# Altium integrated library Analog Devices Data Converters Analog-to-Digital Converters.IntLib: 2400 symbols (part 203 of 338)
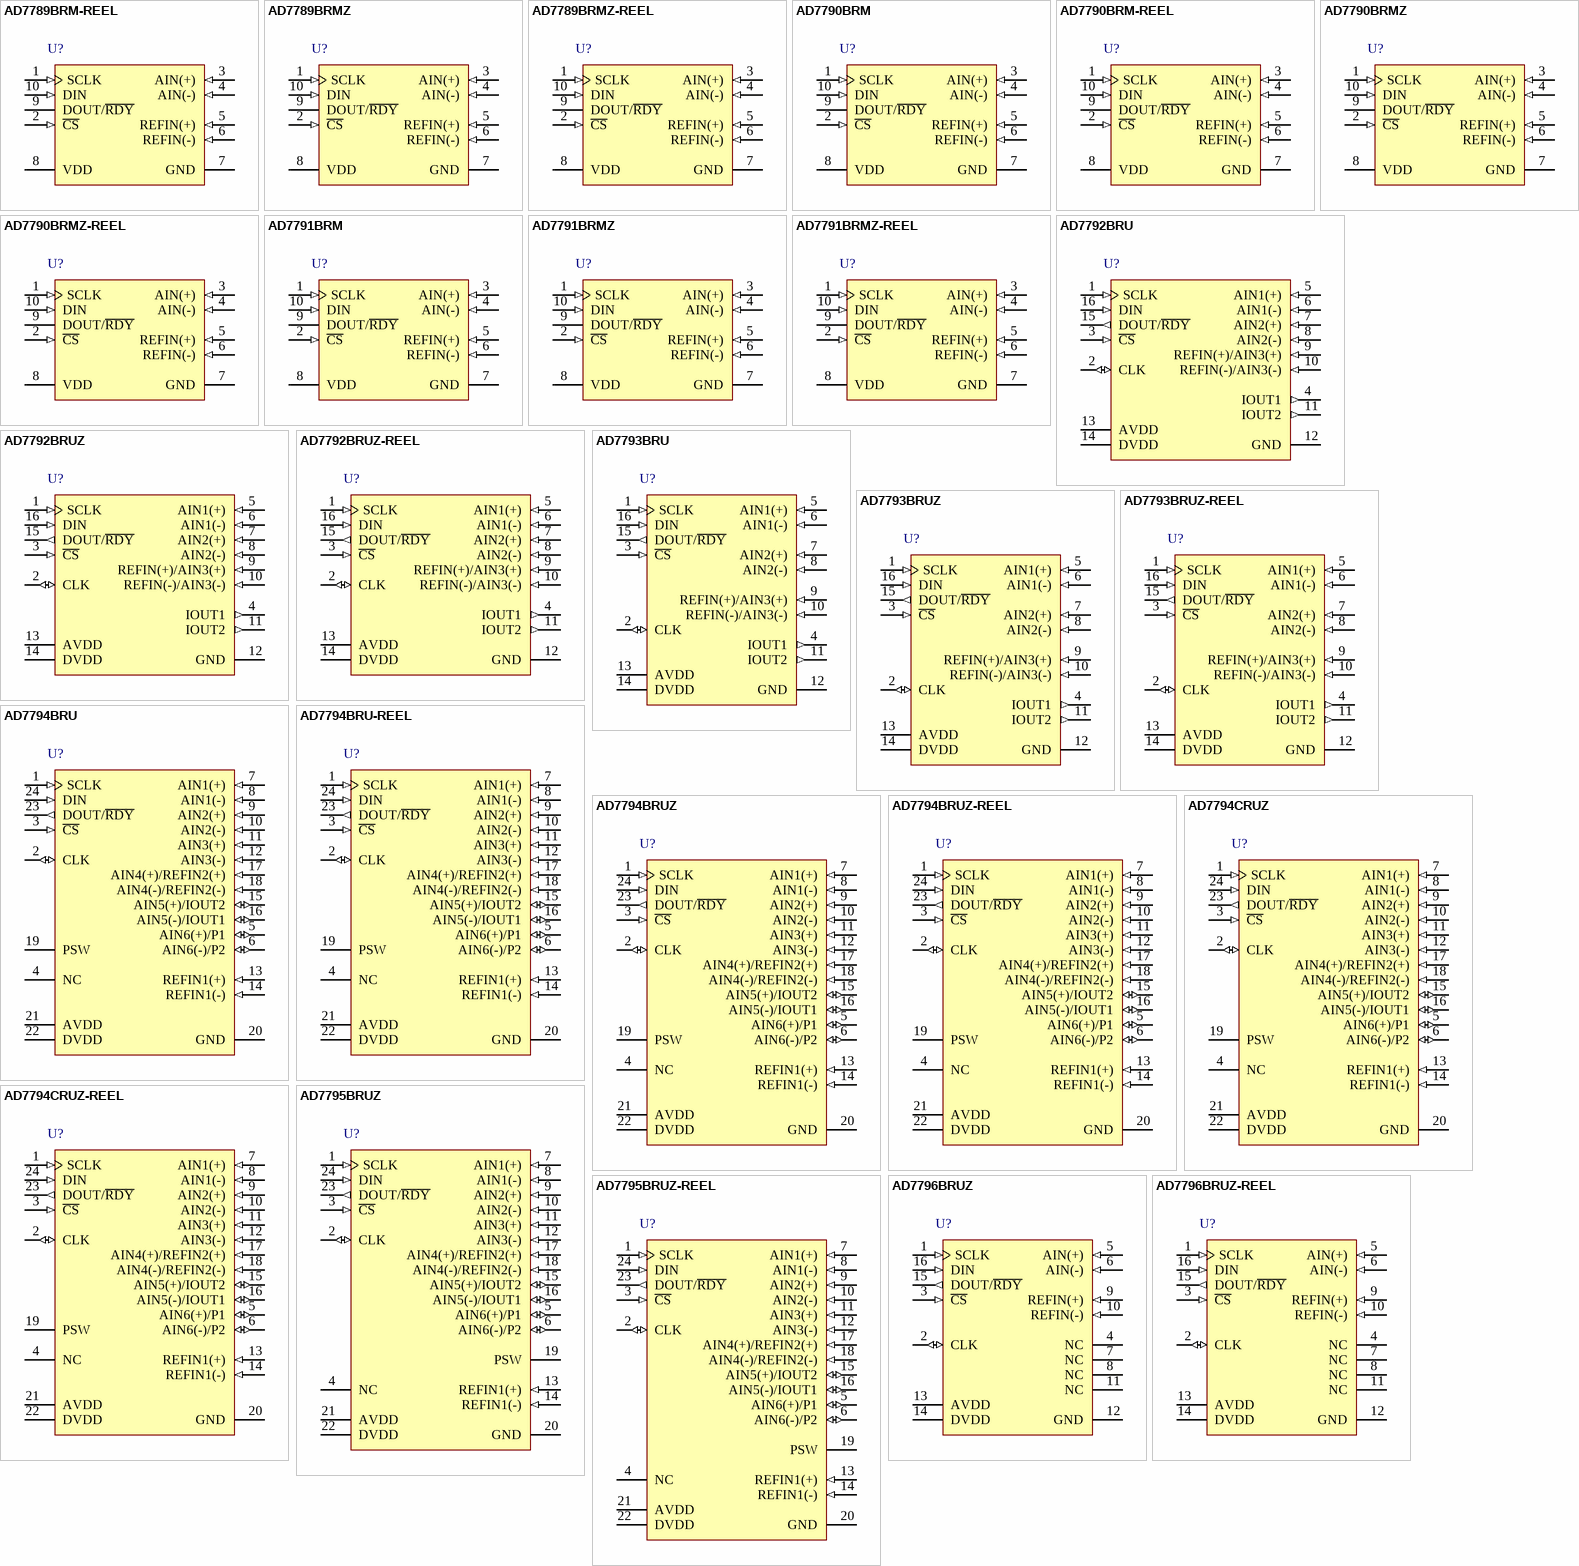
[diagram p267: symbols AD7789BRM-REEL to AD7796BRUZ-REEL]

## AD7795BRUZ-REEL
designator U?
6 Channel 16-Bit Low Noise Low Power Sigma-Delta Analog-to-Digital Converter with Serial, SPI Interface and On-Chip In-Amp and Reference, 470SPS, -40 to +105 degC, RU-24, Pb-Free, Reel; Part Number: AD7795; Manufacturer: Analog Devices; Resolution (Bits): 16; Channels: 6; Throughput Rate (SPS): 470; Interface: Ser, SPI; DatasheetVersion: Rev.D; PackageVersion: 2002; PackageReference: RU-24; PackageDescription: 24-Lead Thin Shrink Small Outline Package [TSSOP]; RoHS: Y; Packing: Reel; Mounting Technology: Surface Mount; Code_JEDEC: MO-153-AD; ComponentLink1Description: Manufacturer URL; ComponentLink1URL: http://www.analog.com/en/index.html; ComponentLink2Description: Datasheet; ComponentLink2URL: http://www.analog.com/static/imported-files/data_sheets/AD7794_7795.pdf; ComponentLink3Description: Package Specification; ComponentLink3URL: http://www.analog.com/static/imported-files/packages/380523655245964505593671154107510036154RU24.pdf; ComponentLink4Description: Product URL; ComponentLink4URL: http://www.analog.com/en/analog-to-digital-converters/ad-converters/ad7795/products/product.html
footprint RU-24_N (TSOP, 24-Leads, Body 7.8x4.4mm, Pitch 0.65mm, IPC Medium Density)
footprint RU-24_L (TSOP, 24-Leads, Body 7.8x4.4mm, Pitch 0.65mm, IPC High Density)
footprint RU-24_M (TSOP, 24-Leads, Body 7.8x4.4mm, Pitch 0.65mm, IPC Low Density)
pins: 1 SCLK (in) "Serial Clock Input. This serial clock input is for data transfers to and from the ADC. The SCLK has a Schmitttriggered input, making the interface suitable for opto-isolated applications. The serial clock can be continuous (See Datasheet)", 2 CLK (io) "Clock In/Clock Out. The internal clock can be made available at this pin. Alternatively, the internal clock can be disabled, and the ADC can be driven by an external clock. This allows several ADCs to be driven from a common (See Datasheet)", 3 ~{CS} (in) "Chip Select Input. This is an active low logic input used to select the ADC. C\S\ can be used to select the ADC in systems with more than one device on the serial bus or as a frame synchronization signal in communicating (See Datasheet)", 4 NC "No Connect.", 5 AIN6(+)/P1 (io) "Analog Input/Digital Output Pin. AIN6(+) is the positive terminal of the differential analog input pair, AIN6(+)/AIN6(-). This pin can also function as a general-purpose output bit referenced between AVDD and GND.", 6 AIN6(-)/P2 (io) "Analog Input/Digital Output Pin. AIN6(-) is the negative terminal of the differential analog input pair, AIN6(+)/AIN6(-). This pin can also function as a general-purpose output bit referenced between AVDD and GND.", 7 AIN1(+) (in) "Analog Input. AIN1(+) is the positive terminal of the differential analog input pair, AIN1(+)/AIN1(-).", 8 AIN1(-) (in) "Analog Input. AIN1(-) is the negative terminal of the differential analog input pair, AIN1(+)/AIN1(-).", 9 AIN2(+) (in) "Analog Input. AIN2(+) is the positive terminal of the differential analog input pair, AIN2(+)/AIN2(-).", 10 AIN2(-) (in) "Analog Input. AIN2(-) is the negative terminal of the differential analog input pair, AIN2(+)/AIN2(-).", 11 AIN3(+) (in) "Analog Input. AIN3(+) is the positive terminal of the differential analog input pair, AIN3(+)/AIN3(-).", 12 AIN3(-) (in) "Analog Input. AIN3(-) is the negative terminal of the differential analog input pair, AIN3(+)/AIN3(-).", 13 REFIN1(+) (in) "Positive Reference Input. An external reference can be applied between REFIN1(+) and REFIN1(-). REFIN1(+) can lie anywhere between AVDD and GND + 0.1 V. The nominal reference voltage, (REFIN1(+) - REFIN1(-)), is 2.5 V, but (See Datasheet)", 14 REFIN1(-) (in) "Negative Reference Input. This reference input can lie anywhere between GND and AVDD - 0.1 V.", 15 AIN5(+)/IOUT2 (io) "Analog Input/Output of Internal Excitation Current Source. AIN5(+) is the positive terminal of the differential analog input pair AIN5(+)/AIN5(-). Alternatively, the internal excitation current source can be made available (See Datasheet)", 16 AIN5(-)/IOUT1 (io) "Analog Input/Output of Internal Excitation Current Source. AIN5(-) is the negative terminal of the differential analog input pair, AIN5(+)/AIN5(-). Alternatively, the internal excitation current source can be made available (See Datasheet)", 17 AIN4(+)/REFIN2(+) (in) "Analog Input/Positive Reference Input. AIN4(+) is the positive terminal of the differential analog input pair AIN4(+)/AIN4(-). This pin also functions as a positive reference input for REFIN2. REFIN2(+) can lie anywhere (See Datasheet)", 18 AIN4(-)/REFIN2(-) (in) "Analog Input/Negative Reference Input. AIN4(-) is the negative terminal of the differential analog input pair AIN4(+)/AIN4(-). This pin also functions as the negative reference input for REFIN2. This reference input can lie (See Datasheet)", 19 PSW "Low-Side Power Switch to GND.", 20 GND (power) "Ground Reference Point.", 21 AVDD (power) "Supply Voltage, 2.7 V to 5.25 V.", 22 DVDD (power) "Serial Interface Supply Voltage, 2.7 V to 5.25 V. DVDD is independent of AVDD. Therefore, the serial interface operates at 3 V with AVDD at 5 V or vice versa.", 23 DOUT/~{RDY} (out) "Serial Data Output/Data Ready Output. DOUT/R\D\Y\ serves a dual purpose. It functions as a serial data output pin to access the output shift register of the ADC. The output shift register can contain data from any of the (See Datasheet)", 24 DIN (in) "Serial Data Input to the Input Shift Register on the ADC. Data in this shift register is transferred to the control registers within the ADC with the register selection bits of the communications register identifying the (See Datasheet)"

## AD7796BRUZ
designator U?
Single 16-Bit Low Power Sigma-Delta Analog-to-Digital Converter for Bridge Sensors with Serial, SPI Interface, 123SPS, -40 to +85 degC, RU-16, Pb-Free, Tube; Part Number: AD7796; Manufacturer: Analog Devices; Resolution (Bits): 16; Channels: 1; Throughput Rate (SPS): 123; Interface: Ser, SPI; DatasheetVersion: Rev.A; PackageVersion: Nov-2002; PackageReference: RU-16; PackageDescription: 16-Lead Thin Shrink Small Outline Package [TSSOP]; RoHS: Y; Packing: Tube; Mounting Technology: Surface Mount; Code_JEDEC: MO-153-AB; ComponentLink1Description: Manufacturer URL; ComponentLink1URL: http://www.analog.com/en/index.html; ComponentLink2Description: Datasheet; ComponentLink2URL: http://www.analog.com/static/imported-files/data_sheets/AD7796_7797.pdf; ComponentLink3Description: Package Specification; ComponentLink3URL: http://www.analog.com/static/imported-files/packages/36244347913743854010197452789RU16.pdf; ComponentLink4Description: Product URL; ComponentLink4URL: http://www.analog.com/en/analog-to-digital-converters/ad-converters/ad7796/products/product.html
footprint RU-16_N (TSOP, 16-Leads, Body 5x4.4mm, Pitch 0.65mm, IPC Medium Density)
footprint RU-16_L (TSOP, 16-Leads, Body 5x4.4mm, Pitch 0.65mm, IPC High Density)
footprint RU-16_M (TSOP, 16-Leads, Body 5x4.4mm, Pitch 0.65mm, IPC Low Density)
pins: 1 SCLK (in) "Serial Clock Input. This serial clock input is for data transfers to and from the ADC. The SCLK has a Schmitt-triggered input, making the interface suitable for opto-isolated applications. The serial clock can be continuous (See Datasheet)", 2 CLK (io) "Clock In/Clock Out. The internal clock can be made available at this pin. Alternatively, the internal clock can be disabled, and the ADC can be driven by an external clock. This allows several ADCs to be driven from a common (See Datasheet)", 3 ~{CS} (in) "Chip Select Input. This is an active low logic input used to select the ADC. C\S\ can be used to select the ADC in systems with more than one device on the serial bus or as a frame synchronization signal in communicating (See Datasheet)", 4 NC "No Connect.", 5 AIN(+) (in) "Analog Input. AIN(+) is the positive terminal of the differential analog input pair AIN(+)/AIN(-).", 6 AIN(-) (in) "Analog Input. AIN(-) is the negative terminal of the differential analog input pair AIN(+)/AIN(-).", 7 NC "No Connect.", 8 NC "No Connect.", 9 REFIN(+) (in) "Positive Reference Input/Analog Input. An external reference can be applied between REFIN(+) and REFIN(-). REFIN(+) can lie anywhere between AVDD and GND + 0.1 V. The nominal reference voltage (REFIN(+) - REFIN(-)) is 2.5 V, (See Datasheet)", 10 REFIN(-) (in) "Negative Reference Input/Analog Input. REFIN(-) is the negative reference input for REFIN. This reference input can lie anywhere between GND and AVDD - 0.1 V.", 11 NC "No Connect.", 12 GND (power) "Ground Reference Point.", 13 AVDD (power) "Supply Voltage, 2.7 V to 5.25 V.", 14 DVDD (power) "Digital Interface Supply Voltage. The logic levels for the serial interface pins are related to this supply, which is between 2.7 V and 5.25 V. The DVDD voltage is independent of the voltage on AVDD; therefore, AVDD can (See Datasheet)", 15 DOUT/~{RDY} (out) "Serial Data Output/Data Ready Output. DOUT/R\D\Y\ serves a dual purpose. It functions as a serial data output pin to access the output shift register of the ADC. The output shift register can contain data from any of the (See Datasheet)", 16 DIN (in) "Serial Data Input. This serial data input accesses the input shift register on the ADC. Data in this shift register is transferred to the control registers within the ADC; the register selection bits of the communication (See Datasheet)"

## AD7796BRUZ-REEL
designator U?
Single 16-Bit Low Power Sigma-Delta Analog-to-Digital Converter for Bridge Sensors with Serial, SPI Interface, 123SPS, -40 to +85 degC, RU-16, Pb-Free, Reel; Part Number: AD7796; Manufacturer: Analog Devices; Resolution (Bits): 16; Channels: 1; Throughput Rate (SPS): 123; Interface: Ser, SPI; DatasheetVersion: Rev.A; PackageVersion: Nov-2002; PackageReference: RU-16; PackageDescription: 16-Lead Thin Shrink Small Outline Package [TSSOP]; RoHS: Y; Packing: Reel; Mounting Technology: Surface Mount; Code_JEDEC: MO-153-AB; ComponentLink1Description: Manufacturer URL; ComponentLink1URL: http://www.analog.com/en/index.html; ComponentLink2Description: Datasheet; ComponentLink2URL: http://www.analog.com/static/imported-files/data_sheets/AD7796_7797.pdf; ComponentLink3Description: Package Specification; ComponentLink3URL: http://www.analog.com/static/imported-files/packages/36244347913743854010197452789RU16.pdf; ComponentLink4Description: Product URL; ComponentLink4URL: http://www.analog.com/en/analog-to-digital-converters/ad-converters/ad7796/products/product.html
footprint RU-16_N (TSOP, 16-Leads, Body 5x4.4mm, Pitch 0.65mm, IPC Medium Density)
footprint RU-16_L (TSOP, 16-Leads, Body 5x4.4mm, Pitch 0.65mm, IPC High Density)
footprint RU-16_M (TSOP, 16-Leads, Body 5x4.4mm, Pitch 0.65mm, IPC Low Density)
pins: 1 SCLK (in) "Serial Clock Input. This serial clock input is for data transfers to and from the ADC. The SCLK has a Schmitt-triggered input, making the interface suitable for opto-isolated applications. The serial clock can be continuous (See Datasheet)", 2 CLK (io) "Clock In/Clock Out. The internal clock can be made available at this pin. Alternatively, the internal clock can be disabled, and the ADC can be driven by an external clock. This allows several ADCs to be driven from a common (See Datasheet)", 3 ~{CS} (in) "Chip Select Input. This is an active low logic input used to select the ADC. C\S\ can be used to select the ADC in systems with more than one device on the serial bus or as a frame synchronization signal in communicating (See Datasheet)", 4 NC "No Connect.", 5 AIN(+) (in) "Analog Input. AIN(+) is the positive terminal of the differential analog input pair AIN(+)/AIN(-).", 6 AIN(-) (in) "Analog Input. AIN(-) is the negative terminal of the differential analog input pair AIN(+)/AIN(-).", 7 NC "No Connect.", 8 NC "No Connect.", 9 REFIN(+) (in) "Positive Reference Input/Analog Input. An external reference can be applied between REFIN(+) and REFIN(-). REFIN(+) can lie anywhere between AVDD and GND + 0.1 V. The nominal reference voltage (REFIN(+) - REFIN(-)) is 2.5 V, (See Datasheet)", 10 REFIN(-) (in) "Negative Reference Input/Analog Input. REFIN(-) is the negative reference input for REFIN. This reference input can lie anywhere between GND and AVDD - 0.1 V.", 11 NC "No Connect.", 12 GND (power) "Ground Reference Point.", 13 AVDD (power) "Supply Voltage, 2.7 V to 5.25 V.", 14 DVDD (power) "Digital Interface Supply Voltage. The logic levels for the serial interface pins are related to this supply, which is between 2.7 V and 5.25 V. The DVDD voltage is independent of the voltage on AVDD; therefore, AVDD can (See Datasheet)", 15 DOUT/~{RDY} (out) "Serial Data Output/Data Ready Output. DOUT/R\D\Y\ serves a dual purpose. It functions as a serial data output pin to access the output shift register of the ADC. The output shift register can contain data from any of the (See Datasheet)", 16 DIN (in) "Serial Data Input. This serial data input accesses the input shift register on the ADC. Data in this shift register is transferred to the control registers within the ADC; the register selection bits of the communication (See Datasheet)"

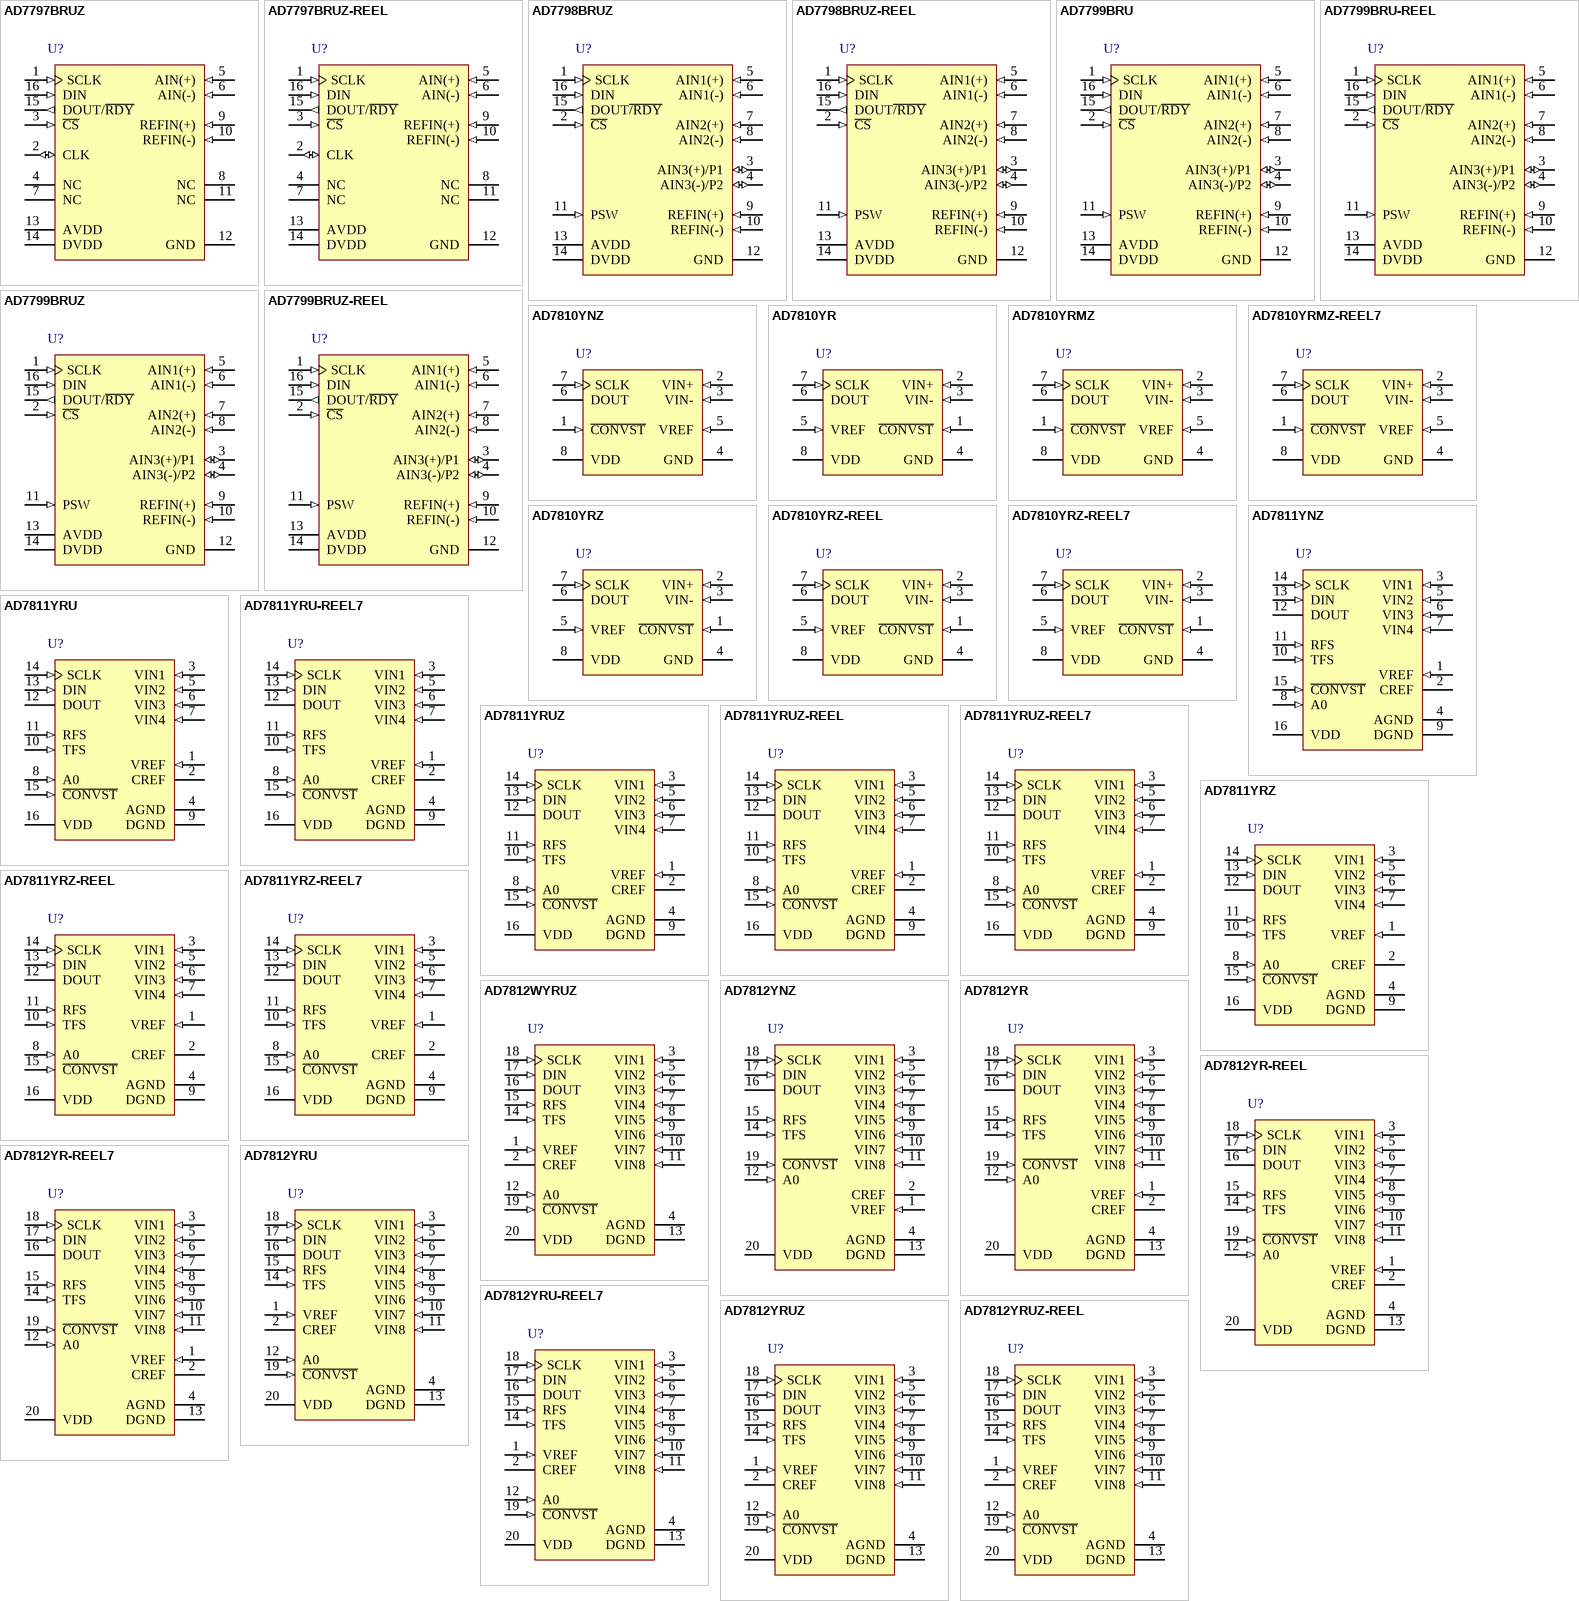
[diagram p63: symbols AD7797BRUZ to AD7812YRUZ-REEL]

## AD7797BRUZ
designator U?
Single 24-Bit Low Power Sigma-Delta Analog-to-Digital Converter for Bridge Sensors with Serial, SPI Interface, 123SPS, -40 to +85 degC, RU-16, Pb-Free, Tube; Part Number: AD7797; Manufacturer: Analog Devices; Resolution (Bits): 24; Channels: 1; Throughput Rate (SPS): 123; Interface: Ser, SPI; DatasheetVersion: Rev.A; PackageVersion: Nov-2002; PackageReference: RU-16; PackageDescription: 16-Lead Thin Shrink Small Outline Package [TSSOP]; RoHS: Y; Packing: Tube; Mounting Technology: Surface Mount; Code_JEDEC: MO-153-AB; ComponentLink1Description: Manufacturer URL; ComponentLink1URL: http://www.analog.com/en/index.html; ComponentLink2Description: Datasheet; ComponentLink2URL: http://www.analog.com/static/imported-files/data_sheets/AD7796_7797.pdf; ComponentLink3Description: Package Specification; ComponentLink3URL: http://www.analog.com/static/imported-files/packages/36244347913743854010197452789RU16.pdf; ComponentLink4Description: Product URL; ComponentLink4URL: http://www.analog.com/en/analog-to-digital-converters/ad-converters/ad7797/products/product.html
footprint RU-16_N (TSOP, 16-Leads, Body 5x4.4mm, Pitch 0.65mm, IPC Medium Density)
footprint RU-16_L (TSOP, 16-Leads, Body 5x4.4mm, Pitch 0.65mm, IPC High Density)
footprint RU-16_M (TSOP, 16-Leads, Body 5x4.4mm, Pitch 0.65mm, IPC Low Density)
pins: 1 SCLK (in) "Serial Clock Input. This serial clock input is for data transfers to and from the ADC. The SCLK has a Schmitttriggered input, making the interface suitable for opto-isolated applications. The serial clock can be continuous (See Datasheet)", 2 CLK (io) "Clock In/Clock Out. The internal clock can be made available at this pin. Alternatively, the internal clock can be disabled, and the ADC can be driven by an external clock. This allows several ADCs to be driven from a common (See Datasheet)", 3 ~{CS} (in) "Chip Select Input. This is an active low logic input used to select the ADC. C\S\ can be used to select the ADC in systems with more than one device on the serial bus or as a frame synchronization signal in communicating (See Datasheet)", 4 NC "No Connect.", 5 AIN(+) (in) "Analog Input. AIN(+) is the positive terminal of the differential analog input pair AIN(+)/AIN(-).", 6 AIN(-) (in) "Analog Input. AIN(-) is the negative terminal of the differential analog input pair AIN(+)/AIN(-).", 7 NC "No Connect.", 8 NC "No Connect.", 9 REFIN(+) (in) "Positive Reference Input/Analog Input. An external reference can be applied between REFIN(+) and REFIN(-). REFIN(+) can lie anywhere between AVDD and GND + 0.1 V. The nominal reference voltage (REFIN(+) - REFIN(-)) is 2.5 V, (See Datasheet)", 10 REFIN(-) (in) "Negative Reference Input/Analog Input. REFIN(-) is the negative reference input for REFIN. This reference input can lie anywhere between GND and AVDD - 0.1 V.", 11 NC "No Connect.", 12 GND (power) "Ground Reference Point.", 13 AVDD (power) "Supply Voltage, 2.7 V to 5.25 V.", 14 DVDD (power) "Digital Interface Supply Voltage. The logic levels for the serial interface pins are related to this supply, which is between 2.7 V and 5.25 V. The DVDD voltage is independent of the voltage on AVDD; therefore, AVDD can (See Datasheet)", 15 DOUT/~{RDY} (out) "Serial Data Output/Data Ready Output. DOUT/RDY serves a dual purpose. It functions as a serial data output pin to access the output shift register of the ADC. The output shift register can contain data from any of the (See Datasheet)", 16 DIN (in) "Serial Data Input. This serial data input accesses the input shift register on the ADC. Data in this shift register is transferred to the control registers within the ADC; the register selection bits of the communication (See Datasheet)"

## AD7797BRUZ-REEL
designator U?
Single 24-Bit Low Power Sigma-Delta Analog-to-Digital Converter for Bridge Sensors with Serial, SPI Interface, 123SPS, -40 to +85 degC, RU-16, Pb-Free, Reel; Part Number: AD7797; Manufacturer: Analog Devices; Resolution (Bits): 24; Channels: 1; Throughput Rate (SPS): 123; Interface: Ser, SPI; DatasheetVersion: Rev.A; PackageVersion: Nov-2002; PackageReference: RU-16; PackageDescription: 16-Lead Thin Shrink Small Outline Package [TSSOP]; RoHS: Y; Packing: Reel; Mounting Technology: Surface Mount; Code_JEDEC: MO-153-AB; ComponentLink1Description: Manufacturer URL; ComponentLink1URL: http://www.analog.com/en/index.html; ComponentLink2Description: Datasheet; ComponentLink2URL: http://www.analog.com/static/imported-files/data_sheets/AD7796_7797.pdf; ComponentLink3Description: Package Specification; ComponentLink3URL: http://www.analog.com/static/imported-files/packages/36244347913743854010197452789RU16.pdf; ComponentLink4Description: Product URL; ComponentLink4URL: http://www.analog.com/en/analog-to-digital-converters/ad-converters/ad7797/products/product.html
footprint RU-16_N (TSOP, 16-Leads, Body 5x4.4mm, Pitch 0.65mm, IPC Medium Density)
footprint RU-16_L (TSOP, 16-Leads, Body 5x4.4mm, Pitch 0.65mm, IPC High Density)
footprint RU-16_M (TSOP, 16-Leads, Body 5x4.4mm, Pitch 0.65mm, IPC Low Density)
pins: 1 SCLK (in) "Serial Clock Input. This serial clock input is for data transfers to and from the ADC. The SCLK has a Schmitttriggered input, making the interface suitable for opto-isolated applications. The serial clock can be continuous (See Datasheet)", 2 CLK (io) "Clock In/Clock Out. The internal clock can be made available at this pin. Alternatively, the internal clock can be disabled, and the ADC can be driven by an external clock. This allows several ADCs to be driven from a common (See Datasheet)", 3 ~{CS} (in) "Chip Select Input. This is an active low logic input used to select the ADC. C\S\ can be used to select the ADC in systems with more than one device on the serial bus or as a frame synchronization signal in communicating (See Datasheet)", 4 NC "No Connect.", 5 AIN(+) (in) "Analog Input. AIN(+) is the positive terminal of the differential analog input pair AIN(+)/AIN(-).", 6 AIN(-) (in) "Analog Input. AIN(-) is the negative terminal of the differential analog input pair AIN(+)/AIN(-).", 7 NC "No Connect.", 8 NC "No Connect.", 9 REFIN(+) (in) "Positive Reference Input/Analog Input. An external reference can be applied between REFIN(+) and REFIN(-). REFIN(+) can lie anywhere between AVDD and GND + 0.1 V. The nominal reference voltage (REFIN(+) - REFIN(-)) is 2.5 V, (See Datasheet)", 10 REFIN(-) (in) "Negative Reference Input/Analog Input. REFIN(-) is the negative reference input for REFIN. This reference input can lie anywhere between GND and AVDD - 0.1 V.", 11 NC "No Connect.", 12 GND (power) "Ground Reference Point.", 13 AVDD (power) "Supply Voltage, 2.7 V to 5.25 V.", 14 DVDD (power) "Digital Interface Supply Voltage. The logic levels for the serial interface pins are related to this supply, which is between 2.7 V and 5.25 V. The DVDD voltage is independent of the voltage on AVDD; therefore, AVDD can (See Datasheet)", 15 DOUT/~{RDY} (out) "Serial Data Output/Data Ready Output. DOUT/RDY serves a dual purpose. It functions as a serial data output pin to access the output shift register of the ADC. The output shift register can contain data from any of the (See Datasheet)", 16 DIN (in) "Serial Data Input. This serial data input accesses the input shift register on the ADC. Data in this shift register is transferred to the control registers within the ADC; the register selection bits of the communication (See Datasheet)"

## AD7798BRUZ
designator U?
3 Channel 16-Bit Low Noise Low Power Sigma-Delta Analog-to-Digital Converter with Serial, SPI Interface and On-Chip In-Amp, 470SPS, -40 to +105 degC, RU-16, Pb-Free, Tube; Part Number: AD7798; Manufacturer: Analog Devices; Resolution (Bits): 16; Channels: 3; Throughput Rate (SPS): 470; Interface: Ser, SPI; DatasheetVersion: Rev.A; PackageVersion: Nov-2002; PackageReference: RU-16; PackageDescription: 16-Lead Thin Shrink Small Outline Package [TSSOP]; RoHS: Y; Packing: Tube; Mounting Technology: Surface Mount; Code_JEDEC: MO-153-AB; ComponentLink1Description: Manufacturer URL; ComponentLink1URL: http://www.analog.com/en/index.html; ComponentLink2Description: Datasheet; ComponentLink2URL: http://www.analog.com/static/imported-files/data_sheets/AD7798_7799.pdf; ComponentLink3Description: Package Specification; ComponentLink3URL: http://www.analog.com/static/imported-files/packages/36244347913743854010197452789RU16.pdf; ComponentLink4Description: Product URL; ComponentLink4URL: http://www.analog.com/en/analog-to-digital-converters/ad-converters/ad7798/products/product.html
footprint RU-16_N (TSOP, 16-Leads, Body 5x4.4mm, Pitch 0.65mm, IPC Medium Density)
footprint RU-16_L (TSOP, 16-Leads, Body 5x4.4mm, Pitch 0.65mm, IPC High Density)
footprint RU-16_M (TSOP, 16-Leads, Body 5x4.4mm, Pitch 0.65mm, IPC Low Density)
pins: 1 SCLK (in) "Serial Clock Input. This serial clock input is for data transfers to and from the ADC. The SCLK has a Schmitt-triggered input, making the interface suitable for opto-isolated applications. The serial clock can be continuous, (See Datasheet)", 2 ~{CS} (in) "Chip Select Input. This is an active low logic input used to select the ADC. C\S\ can be used to select the ADC in systems with more than one device on the serial bus, or it can be used as a frame synchronization signal when (See Datasheet)", 3 AIN3(+)/P1 (io) "Analog Input/Digital Output Pin. AIN3(+) is the positive terminal of the differential analog input pair AIN3(+)/AIN3(-). Alternatively, this pin can function as a general-purpose output bit referenced between AVDD and GND", 4 AIN3(-)/P2 (io) "Analog Input/Digital Output Pin. AIN3(-) is the negative terminal of the differential analog input pair AIN3(+)/AIN3(-). Alternatively, this pin can function as a general-purpose output bit referenced between AVDD and GND", 5 AIN1(+) (in) "Analog Input. AIN1(+) is the positive terminal of the differential analog input pair AIN1(+)/AIN1(-).", 6 AIN1(-) (in) "Analog Input. AIN1(-) is the negative terminal of the differential analog input pair AIN1(+)/AIN1(-).", 7 AIN2(+) (in) "Analog Input. AIN2(+) is the positive terminal of the differential analog input pair AIN2(+)/AIN2(-).", 8 AIN2(-) (in) "Analog Input. AIN2(-) is the negative terminal of the differential analog input pair AIN2(+)/AIN2(-).", 9 REFIN(+) (in) "Positive Reference Input. An external reference can be applied between REFIN(+) and REFIN(-). REFIN(+) can lie anywhere between AVDD and GND + 0.1 V. The nominal reference voltage (REFIN(+) - REFIN(-)) is 2.5 V, but the part (See Datasheet)", 10 REFIN(-) (in) "Negative Reference Input. REFIN(-) is the negative reference input for REFIN. This reference input can lie anywhere between GND and AVDD - 0.1 V.", 11 PSW (in) "Low-Side Power Switch to GND.", 12 GND (power) "Ground Reference Point.", 13 AVDD (power) "Supply Voltage. 2.7 V to 5.25 V.", 14 DVDD (power) "Digital Interface Supply Voltage. The logic levels for the serial interface pins are related to this supply, which is between 2.7 V and 5.25 V. The DVDD voltage is independent of the voltage on AVDD; therefore, AVDD can (See Datasheet)", 15 DOUT~{/RDY} (out) "Serial Data Output/Data Ready Output. DOUT/R\D\Y\ serves a dual purpose. It functions as a serial data output pin to access the output shift register of the ADC. The output shift register can contain data from any of the (See Datasheet)", 16 DIN (in) "Serial Data Input to the Input Shift Register on the ADC. Data in this shift register is transferred to the control registers within the ADC, with the register selection bits of the communication register identifying the (See Datasheet)"

## AD7798BRUZ-REEL
designator U?
3 Channel 16-Bit Low Noise Low Power Sigma-Delta Analog-to-Digital Converter with Serial, SPI Interface and On-Chip In-Amp, 470SPS, -40 to +105 degC, RU-16, Pb-Free, Reel; Part Number: AD7798; Manufacturer: Analog Devices; Resolution (Bits): 16; Channels: 3; Throughput Rate (SPS): 470; Interface: Ser, SPI; DatasheetVersion: Rev.A; PackageVersion: Nov-2002; PackageReference: RU-16; PackageDescription: 16-Lead Thin Shrink Small Outline Package [TSSOP]; RoHS: Y; Packing: Reel; Mounting Technology: Surface Mount; Code_JEDEC: MO-153-AB; ComponentLink1Description: Manufacturer URL; ComponentLink1URL: http://www.analog.com/en/index.html; ComponentLink2Description: Datasheet; ComponentLink2URL: http://www.analog.com/static/imported-files/data_sheets/AD7798_7799.pdf; ComponentLink3Description: Package Specification; ComponentLink3URL: http://www.analog.com/static/imported-files/packages/36244347913743854010197452789RU16.pdf; ComponentLink4Description: Product URL; ComponentLink4URL: http://www.analog.com/en/analog-to-digital-converters/ad-converters/ad7798/products/product.html
footprint RU-16_N (TSOP, 16-Leads, Body 5x4.4mm, Pitch 0.65mm, IPC Medium Density)
footprint RU-16_L (TSOP, 16-Leads, Body 5x4.4mm, Pitch 0.65mm, IPC High Density)
footprint RU-16_M (TSOP, 16-Leads, Body 5x4.4mm, Pitch 0.65mm, IPC Low Density)
pins: 1 SCLK (in) "Serial Clock Input. This serial clock input is for data transfers to and from the ADC. The SCLK has a Schmitt-triggered input, making the interface suitable for opto-isolated applications. The serial clock can be continuous, (See Datasheet)", 2 ~{CS} (in) "Chip Select Input. This is an active low logic input used to select the ADC. C\S\ can be used to select the ADC in systems with more than one device on the serial bus, or it can be used as a frame synchronization signal when (See Datasheet)", 3 AIN3(+)/P1 (io) "Analog Input/Digital Output Pin. AIN3(+) is the positive terminal of the differential analog input pair AIN3(+)/AIN3(-). Alternatively, this pin can function as a general-purpose output bit referenced between AVDD and GND", 4 AIN3(-)/P2 (io) "Analog Input/Digital Output Pin. AIN3(-) is the negative terminal of the differential analog input pair AIN3(+)/AIN3(-). Alternatively, this pin can function as a general-purpose output bit referenced between AVDD and GND", 5 AIN1(+) (in) "Analog Input. AIN1(+) is the positive terminal of the differential analog input pair AIN1(+)/AIN1(-).", 6 AIN1(-) (in) "Analog Input. AIN1(-) is the negative terminal of the differential analog input pair AIN1(+)/AIN1(-).", 7 AIN2(+) (in) "Analog Input. AIN2(+) is the positive terminal of the differential analog input pair AIN2(+)/AIN2(-).", 8 AIN2(-) (in) "Analog Input. AIN2(-) is the negative terminal of the differential analog input pair AIN2(+)/AIN2(-).", 9 REFIN(+) (in) "Positive Reference Input. An external reference can be applied between REFIN(+) and REFIN(-). REFIN(+) can lie anywhere between AVDD and GND + 0.1 V. The nominal reference voltage (REFIN(+) - REFIN(-)) is 2.5 V, but the part (See Datasheet)", 10 REFIN(-) (in) "Negative Reference Input. REFIN(-) is the negative reference input for REFIN. This reference input can lie anywhere between GND and AVDD - 0.1 V.", 11 PSW (in) "Low-Side Power Switch to GND.", 12 GND (power) "Ground Reference Point.", 13 AVDD (power) "Supply Voltage. 2.7 V to 5.25 V.", 14 DVDD (power) "Digital Interface Supply Voltage. The logic levels for the serial interface pins are related to this supply, which is between 2.7 V and 5.25 V. The DVDD voltage is independent of the voltage on AVDD; therefore, AVDD can (See Datasheet)", 15 DOUT~{/RDY} (out) "Serial Data Output/Data Ready Output. DOUT/R\D\Y\ serves a dual purpose. It functions as a serial data output pin to access the output shift register of the ADC. The output shift register can contain data from any of the (See Datasheet)", 16 DIN (in) "Serial Data Input to the Input Shift Register on the ADC. Data in this shift register is transferred to the control registers within the ADC, with the register selection bits of the communication register identifying the (See Datasheet)"

## AD7799BRU
designator U?
3 Channel 24-Bit Low Noise Low Power Sigma-Delta Analog-to-Digital Converter with Serial, SPI Interface and On-Chip In-Amp, 470SPS, -40 to +105 degC, RU-16, Tube; Part Number: AD7799; Manufacturer: Analog Devices; Resolution (Bits): 24; Channels: 3; Throughput Rate (SPS): 470; Interface: Ser, SPI; DatasheetVersion: Rev.A; PackageVersion: Nov-2002; PackageReference: RU-16; PackageDescription: 16-Lead Thin Shrink Small Outline Package [TSSOP]; RoHS: N; Packing: Tube; Mounting Technology: Surface Mount; Code_JEDEC: MO-153-AB; ComponentLink1Description: Manufacturer URL; ComponentLink1URL: http://www.analog.com/en/index.html; ComponentLink2Description: Datasheet; ComponentLink2URL: http://www.analog.com/static/imported-files/data_sheets/AD7798_7799.pdf; ComponentLink3Description: Package Specification; ComponentLink3URL: http://www.analog.com/static/imported-files/packages/36244347913743854010197452789RU16.pdf; ComponentLink4Description: Product URL; ComponentLink4URL: http://www.analog.com/en/analog-to-digital-converters/ad-converters/ad7799/products/product.html
footprint RU-16_N (TSOP, 16-Leads, Body 5x4.4mm, Pitch 0.65mm, IPC Medium Density)
footprint RU-16_L (TSOP, 16-Leads, Body 5x4.4mm, Pitch 0.65mm, IPC High Density)
footprint RU-16_M (TSOP, 16-Leads, Body 5x4.4mm, Pitch 0.65mm, IPC Low Density)
pins: 1 SCLK (in) "Serial Clock Input.  This serial clock input is for data transfers to and from the ADC. The SCLK has a Schmitt-triggered  input, making the interface suitable for opto-isolated applications. The serial clock can be (See Datasheet)", 2 ~{CS} (in) "Chip Select Input. This is an active low logic input used to select the ADC. C\S\ can be used to select the ADC in systems with more than one device on the serial bus, or it can be used as a frame synchronization signal when (See Datasheet)", 3 AIN3(+)/P1 (io) "Analog Input/Digital Output Pin. AIN3(+) is the positive terminal of the differential analog input pair AIN3(+)/AIN3(-).  Alternatively, this pin can function as a general-purpose output bit referenced between AVDD and GND", 4 AIN3(-)/P2 (io) "Analog Input/Digital Output Pin. AIN3(-) is the negative terminal of the differential analog input pair AIN3(+)/AIN3(-). Alternatively, this pin can function as a general-purpose output bit referenced between AVDD and GND", 5 AIN1(+) (in) "Analog Input. AIN1(+) is the positive terminal of the differential analog input pair AIN1(+)/AIN1(-).", 6 AIN1(-) (in) "Analog Input. AIN1(-) is the negative terminal of the differential analog input pair AIN1(+)/AIN1(-).", 7 AIN2(+) (in) "Analog Input. AIN2(+) is the positive terminal of the differential analog input pair AIN2(+)/AIN2(-).", 8 AIN2(-) (in) "Analog Input. AIN2(-) is the negative terminal of the differential analog input pair AIN2(+)/AIN2(-).", 9 REFIN(+) (in) "Positive Reference Input. An external reference can be applied between REFIN(+) and REFIN(-). REFIN(+) can lie  anywhere between AVDD and GND + 0.1 V. The nominal reference voltage (REFIN(+) - REFIN(-)) is 2.5 V, but the (See Datasheet)", 10 REFIN(-) (in) "Negative Reference Input. REFIN(-) is the negative reference input for REFIN. This reference input can lie anywhere between GND and AVDD - 0.1 V.", 11 PSW (in) "Low-Side Power Switch to GND.", 12 GND (power) "Ground Reference Point.", 13 AVDD (power) "Supply Voltage. 2.7 V to 5.25 V.", 14 DVDD (power) "Digital Interface Supply Voltage. The logic levels for the serial interface pins are related to this supply, which is between 2.7 V and 5.25 V. The DVDD voltage is independent of the voltage on AVDD; therefore, AVDD can (See Datasheet)", 15 DOUT/~{RDY} (out) "Serial Data Output/Data Ready Output. DOUT/R\D\Y\ serves a dual purpose. It functions as a serial data output pin to access the output shift register of the ADC. The output shift register can contain data from any of the (See Datasheet)", 16 DIN (in) "Serial Data Input to the Input Shift Register on the ADC. Data in this shift register is transferred to the control registers within the ADC, with the register selection bits of the communication register identifying the (See Datasheet)"

## AD7799BRU-REEL
designator U?
3 Channel 24-Bit Low Noise Low Power Sigma-Delta Analog-to-Digital Converter with Serial, SPI Interface and On-Chip In-Amp, 470SPS, -40 to +105 degC, RU-16, Reel; Part Number: AD7799; Manufacturer: Analog Devices; Resolution (Bits): 24; Channels: 3; Throughput Rate (SPS): 470; Interface: Ser, SPI; DatasheetVersion: Rev.A; PackageVersion: Nov-2002; PackageReference: RU-16; PackageDescription: 16-Lead Thin Shrink Small Outline Package [TSSOP]; RoHS: N; Packing: Reel; Mounting Technology: Surface Mount; Code_JEDEC: MO-153-AB; ComponentLink1Description: Manufacturer URL; ComponentLink1URL: http://www.analog.com/en/index.html; ComponentLink2Description: Datasheet; ComponentLink2URL: http://www.analog.com/static/imported-files/data_sheets/AD7798_7799.pdf; ComponentLink3Description: Package Specification; ComponentLink3URL: http://www.analog.com/static/imported-files/packages/36244347913743854010197452789RU16.pdf; ComponentLink4Description: Product URL; ComponentLink4URL: http://www.analog.com/en/analog-to-digital-converters/ad-converters/ad7799/products/product.html
footprint RU-16_N (TSOP, 16-Leads, Body 5x4.4mm, Pitch 0.65mm, IPC Medium Density)
footprint RU-16_L (TSOP, 16-Leads, Body 5x4.4mm, Pitch 0.65mm, IPC High Density)
footprint RU-16_M (TSOP, 16-Leads, Body 5x4.4mm, Pitch 0.65mm, IPC Low Density)
pins: 1 SCLK (in) "Serial Clock Input.  This serial clock input is for data transfers to and from the ADC. The SCLK has a Schmitt-triggered  input, making the interface suitable for opto-isolated applications. The serial clock can be (See Datasheet)", 2 ~{CS} (in) "Chip Select Input. This is an active low logic input used to select the ADC. C\S\ can be used to select the ADC in systems with more than one device on the serial bus, or it can be used as a frame synchronization signal when (See Datasheet)", 3 AIN3(+)/P1 (io) "Analog Input/Digital Output Pin. AIN3(+) is the positive terminal of the differential analog input pair AIN3(+)/AIN3(-).  Alternatively, this pin can function as a general-purpose output bit referenced between AVDD and GND", 4 AIN3(-)/P2 (io) "Analog Input/Digital Output Pin. AIN3(-) is the negative terminal of the differential analog input pair AIN3(+)/AIN3(-). Alternatively, this pin can function as a general-purpose output bit referenced between AVDD and GND", 5 AIN1(+) (in) "Analog Input. AIN1(+) is the positive terminal of the differential analog input pair AIN1(+)/AIN1(-).", 6 AIN1(-) (in) "Analog Input. AIN1(-) is the negative terminal of the differential analog input pair AIN1(+)/AIN1(-).", 7 AIN2(+) (in) "Analog Input. AIN2(+) is the positive terminal of the differential analog input pair AIN2(+)/AIN2(-).", 8 AIN2(-) (in) "Analog Input. AIN2(-) is the negative terminal of the differential analog input pair AIN2(+)/AIN2(-).", 9 REFIN(+) (in) "Positive Reference Input. An external reference can be applied between REFIN(+) and REFIN(-). REFIN(+) can lie  anywhere between AVDD and GND + 0.1 V. The nominal reference voltage (REFIN(+) - REFIN(-)) is 2.5 V, but the (See Datasheet)", 10 REFIN(-) (in) "Negative Reference Input. REFIN(-) is the negative reference input for REFIN. This reference input can lie anywhere between GND and AVDD - 0.1 V.", 11 PSW (in) "Low-Side Power Switch to GND.", 12 GND (power) "Ground Reference Point.", 13 AVDD (power) "Supply Voltage. 2.7 V to 5.25 V.", 14 DVDD (power) "Digital Interface Supply Voltage. The logic levels for the serial interface pins are related to this supply, which is between 2.7 V and 5.25 V. The DVDD voltage is independent of the voltage on AVDD; therefore, AVDD can (See Datasheet)", 15 DOUT/~{RDY} (out) "Serial Data Output/Data Ready Output. DOUT/R\D\Y\ serves a dual purpose. It functions as a serial data output pin to access the output shift register of the ADC. The output shift register can contain data from any of the (See Datasheet)", 16 DIN (in) "Serial Data Input to the Input Shift Register on the ADC. Data in this shift register is transferred to the control registers within the ADC, with the register selection bits of the communication register identifying the (See Datasheet)"

## AD7799BRUZ
designator U?
3 Channel 24-Bit Low Noise Low Power Sigma-Delta Analog-to-Digital Converter with Serial, SPI Interface and On-Chip In-Amp, 470SPS, -40 to +105 degC, RU-16, Pb-Free, Tube; Part Number: AD7799; Manufacturer: Analog Devices; Resolution (Bits): 24; Channels: 3; Throughput Rate (SPS): 470; Interface: Ser, SPI; DatasheetVersion: Rev.A; PackageVersion: Nov-2002; PackageReference: RU-16; PackageDescription: 16-Lead Thin Shrink Small Outline Package [TSSOP]; RoHS: Y; Packing: Tube; Mounting Technology: Surface Mount; Code_JEDEC: MO-153-AB; ComponentLink1Description: Manufacturer URL; ComponentLink1URL: http://www.analog.com/en/index.html; ComponentLink2Description: Datasheet; ComponentLink2URL: http://www.analog.com/static/imported-files/data_sheets/AD7798_7799.pdf; ComponentLink3Description: Package Specification; ComponentLink3URL: http://www.analog.com/static/imported-files/packages/36244347913743854010197452789RU16.pdf; ComponentLink4Description: Product URL; ComponentLink4URL: http://www.analog.com/en/analog-to-digital-converters/ad-converters/ad7799/products/product.html
footprint RU-16_N (TSOP, 16-Leads, Body 5x4.4mm, Pitch 0.65mm, IPC Medium Density)
footprint RU-16_L (TSOP, 16-Leads, Body 5x4.4mm, Pitch 0.65mm, IPC High Density)
footprint RU-16_M (TSOP, 16-Leads, Body 5x4.4mm, Pitch 0.65mm, IPC Low Density)
pins: 1 SCLK (in) "Serial Clock Input.  This serial clock input is for data transfers to and from the ADC. The SCLK has a Schmitt-triggered  input, making the interface suitable for opto-isolated applications. The serial clock can be (See Datasheet)", 2 ~{CS} (in) "Chip Select Input. This is an active low logic input used to select the ADC. C\S\ can be used to select the ADC in systems with more than one device on the serial bus, or it can be used as a frame synchronization signal when (See Datasheet)", 3 AIN3(+)/P1 (io) "Analog Input/Digital Output Pin. AIN3(+) is the positive terminal of the differential analog input pair AIN3(+)/AIN3(-).  Alternatively, this pin can function as a general-purpose output bit referenced between AVDD and GND", 4 AIN3(-)/P2 (io) "Analog Input/Digital Output Pin. AIN3(-) is the negative terminal of the differential analog input pair AIN3(+)/AIN3(-). Alternatively, this pin can function as a general-purpose output bit referenced between AVDD and GND", 5 AIN1(+) (in) "Analog Input. AIN1(+) is the positive terminal of the differential analog input pair AIN1(+)/AIN1(-).", 6 AIN1(-) (in) "Analog Input. AIN1(-) is the negative terminal of the differential analog input pair AIN1(+)/AIN1(-).", 7 AIN2(+) (in) "Analog Input. AIN2(+) is the positive terminal of the differential analog input pair AIN2(+)/AIN2(-).", 8 AIN2(-) (in) "Analog Input. AIN2(-) is the negative terminal of the differential analog input pair AIN2(+)/AIN2(-).", 9 REFIN(+) (in) "Positive Reference Input. An external reference can be applied between REFIN(+) and REFIN(-). REFIN(+) can lie  anywhere between AVDD and GND + 0.1 V. The nominal reference voltage (REFIN(+) - REFIN(-)) is 2.5 V, but the (See Datasheet)", 10 REFIN(-) (in) "Negative Reference Input. REFIN(-) is the negative reference input for REFIN. This reference input can lie anywhere between GND and AVDD - 0.1 V.", 11 PSW (in) "Low-Side Power Switch to GND.", 12 GND (power) "Ground Reference Point.", 13 AVDD (power) "Supply Voltage. 2.7 V to 5.25 V.", 14 DVDD (power) "Digital Interface Supply Voltage. The logic levels for the serial interface pins are related to this supply, which is between 2.7 V and 5.25 V. The DVDD voltage is independent of the voltage on AVDD; therefore, AVDD can (See Datasheet)", 15 DOUT/~{RDY} (out) "Serial Data Output/Data Ready Output. DOUT/R\D\Y\ serves a dual purpose. It functions as a serial data output pin to access the output shift register of the ADC. The output shift register can contain data from any of the (See Datasheet)", 16 DIN (in) "Serial Data Input to the Input Shift Register on the ADC. Data in this shift register is transferred to the control registers within the ADC, with the register selection bits of the communication register identifying the (See Datasheet)"

## AD7799BRUZ-REEL
designator U?
3 Channel 24-Bit Low Noise Low Power Sigma-Delta Analog-to-Digital Converter with Serial, SPI Interface and On-Chip In-Amp, 470SPS, -40 to +105 degC, RU-16, Pb-Free, Reel; Part Number: AD7799; Manufacturer: Analog Devices; Resolution (Bits): 24; Channels: 3; Throughput Rate (SPS): 470; Interface: Ser, SPI; DatasheetVersion: Rev.A; PackageVersion: Nov-2002; PackageReference: RU-16; PackageDescription: 16-Lead Thin Shrink Small Outline Package [TSSOP]; RoHS: Y; Packing: Reel; Mounting Technology: Surface Mount; Code_JEDEC: MO-153-AB; ComponentLink1Description: Manufacturer URL; ComponentLink1URL: http://www.analog.com/en/index.html; ComponentLink2Description: Datasheet; ComponentLink2URL: http://www.analog.com/static/imported-files/data_sheets/AD7798_7799.pdf; ComponentLink3Description: Package Specification; ComponentLink3URL: http://www.analog.com/static/imported-files/packages/36244347913743854010197452789RU16.pdf; ComponentLink4Description: Product URL; ComponentLink4URL: http://www.analog.com/en/analog-to-digital-converters/ad-converters/ad7799/products/product.html
footprint RU-16_N (TSOP, 16-Leads, Body 5x4.4mm, Pitch 0.65mm, IPC Medium Density)
footprint RU-16_L (TSOP, 16-Leads, Body 5x4.4mm, Pitch 0.65mm, IPC High Density)
footprint RU-16_M (TSOP, 16-Leads, Body 5x4.4mm, Pitch 0.65mm, IPC Low Density)
pins: 1 SCLK (in) "Serial Clock Input.  This serial clock input is for data transfers to and from the ADC. The SCLK has a Schmitt-triggered  input, making the interface suitable for opto-isolated applications. The serial clock can be (See Datasheet)", 2 ~{CS} (in) "Chip Select Input. This is an active low logic input used to select the ADC. C\S\ can be used to select the ADC in systems with more than one device on the serial bus, or it can be used as a frame synchronization signal when (See Datasheet)", 3 AIN3(+)/P1 (io) "Analog Input/Digital Output Pin. AIN3(+) is the positive terminal of the differential analog input pair AIN3(+)/AIN3(-).  Alternatively, this pin can function as a general-purpose output bit referenced between AVDD and GND", 4 AIN3(-)/P2 (io) "Analog Input/Digital Output Pin. AIN3(-) is the negative terminal of the differential analog input pair AIN3(+)/AIN3(-). Alternatively, this pin can function as a general-purpose output bit referenced between AVDD and GND", 5 AIN1(+) (in) "Analog Input. AIN1(+) is the positive terminal of the differential analog input pair AIN1(+)/AIN1(-).", 6 AIN1(-) (in) "Analog Input. AIN1(-) is the negative terminal of the differential analog input pair AIN1(+)/AIN1(-).", 7 AIN2(+) (in) "Analog Input. AIN2(+) is the positive terminal of the differential analog input pair AIN2(+)/AIN2(-).", 8 AIN2(-) (in) "Analog Input. AIN2(-) is the negative terminal of the differential analog input pair AIN2(+)/AIN2(-).", 9 REFIN(+) (in) "Positive Reference Input. An external reference can be applied between REFIN(+) and REFIN(-). REFIN(+) can lie  anywhere between AVDD and GND + 0.1 V. The nominal reference voltage (REFIN(+) - REFIN(-)) is 2.5 V, but the (See Datasheet)", 10 REFIN(-) (in) "Negative Reference Input. REFIN(-) is the negative reference input for REFIN. This reference input can lie anywhere between GND and AVDD - 0.1 V.", 11 PSW (in) "Low-Side Power Switch to GND.", 12 GND (power) "Ground Reference Point.", 13 AVDD (power) "Supply Voltage. 2.7 V to 5.25 V.", 14 DVDD (power) "Digital Interface Supply Voltage. The logic levels for the serial interface pins are related to this supply, which is between 2.7 V and 5.25 V. The DVDD voltage is independent of the voltage on AVDD; therefore, AVDD can (See Datasheet)", 15 DOUT/~{RDY} (out) "Serial Data Output/Data Ready Output. DOUT/R\D\Y\ serves a dual purpose. It functions as a serial data output pin to access the output shift register of the ADC. The output shift register can contain data from any of the (See Datasheet)", 16 DIN (in) "Serial Data Input to the Input Shift Register on the ADC. Data in this shift register is transferred to the control registers within the ADC, with the register selection bits of the communication register identifying the (See Datasheet)"

## AD7810YNZ
designator U?
Single 10-Bit Analog-to-Digital Converter with Serial Interface, 2.3 us, 2.7 V to 5.5 V, 350KSPS, -40 to +105 degC, N-8, Pb-Free, Tube; Part Number: AD7810; Manufacturer: Analog Devices; Resolution (Bits): 10; Channels: 1; Throughput Rate (SPS): 350K; Interface: Ser; DatasheetVersion: Rev.B; PackageVersion: 070606-A; PackageReference: N-8; PackageDescription: 8-Lead Plastic Dual In-Line Package [PDIP] Narrow Body; RoHS: Y; Packing: Tube; Mounting Technology: Through-hole; Code_JEDEC: MS-001; ComponentLink1Description: Manufacturer URL; ComponentLink1URL: http://www.analog.com/en/index.html; ComponentLink2Description: Datasheet; ComponentLink2URL: http://www.analog.com/static/imported-files/data_sheets/AD7810.pdf; ComponentLink3Description: Package Specification; ComponentLink3URL: http://www.analog.com/static/imported-files/packages/PKG_PDF/PDIP(N)/N_8.pdf; ComponentLink4Description: Product URL; ComponentLink4URL: http://www.analog.com/en/analog-to-digital-converters/ad-converters/ad7810/products/product.html
footprint N-8 (DIP, 8-Leads, Row Spacing 7.62mm, Pitch 2.54mm, Body 9.6x6.6mm)
pins: 1 ~{CONVST} (in) "Convert Start. Falling edge puts the track-and-hold into hold mode and initiates a conversion. A rising edge on the C\O\N\V\S\T\ pin enables the serial port of the AD7810. This is useful in multi-package applications where a (See Datasheet)", 2 VIN+ (in) "Positive input of the pseudo differential analog input.", 3 VIN- (in) "Negative input of the pseudo differential analog input.", 4 GND (power) "Ground reference for analog and digital circuitry.", 5 VREF (in) "External reference is connected here.", 6 DOUT (hiz) "Serial data is shifted out on this pin.", 7 SCLK (in) "Serial Clock. An external serial clock is applied here.", 8 VDD (power) "Positive Supply Voltage 2.7 V to 5.5 V."

## AD7810YR
designator U?
Single 10-Bit Analog-to-Digital Converter with Serial Interface, 2.3 us, 2.7 V to 5.5 V, 350KSPS, 0 to +70 degC, R-8, Tube; Part Number: AD7810; Manufacturer: Analog Devices; Resolution (Bits): 10; Channels: 1; Throughput Rate (SPS): 350K; Interface: Ser; DatasheetVersion: Rev.B; PackageVersion: 060506-A; PackageReference: R-8; PackageDescription: 8-Lead Standard Small Outline Package [SOIC_N] Narrow Body; RoHS: N; Packing: Tube; Mounting Technology: Surface Mount; Code_JEDEC: MS-012-AA; Code_IPC: SOIC127P600-8; ComponentLink1Description: Manufacturer URL; ComponentLink1URL: http://www.analog.com/en/index.html; ComponentLink2Description: Datasheet; ComponentLink2URL: http://www.analog.com/static/imported-files/data_sheets/AD7810.pdf; ComponentLink3Description: Package Specification; ComponentLink3URL: http://www.analog.com/static/imported-files/packages/PKG_PDF/SOIC_Narrow%20(R)/R_8.pdf; ComponentLink4Description: Product URL; ComponentLink4URL: http://www.analog.com/en/analog-to-digital-converters/ad-converters/ad7810/products/product.html
footprint R-8_N (SOIC, 8-Leads, Body 4.9x3.9mm, Pitch 1.27mm, IPC Medium Density)
footprint R-8_L (SOIC, 8-Leads, Body 4.9x3.9mm, Pitch 1.27mm, IPC High Density)
footprint R-8_M (SOIC, 8-Leads, Body 4.9x3.9mm, Pitch 1.27mm, IPC Low Density)
pins: 1 ~{CONVST} (in) "Convert Start. Falling edge puts the track-and-hold into hold mode and initiates a conversion. A rising edge on the C\O\N\V\S\T\ pin enables the serial port of the AD7810. This is useful in multi-package applications where a (See Datasheet)", 2 VIN+ (in) "Positive input of the pseudo differential analog input.", 3 VIN- (in) "Negative input of the pseudo differential analog input.", 4 GND (power) "Ground reference for analog and digital circuitry.", 5 VREF (in) "External reference is connected here.", 6 DOUT (hiz) "Serial data is shifted out on this pin.", 7 SCLK (in) "Serial Clock. An external serial clock is applied here.", 8 VDD (power) "Positive Supply Voltage 2.7 V to 5.5 V."